# Altium footprint library Ind_Bourns_SRN6045-6R8Y_eec_0.PcbLib: 1 footprints
Each footprint in its own frame and in the unit in brackets; x right, y up, seen from the top. Pads: shape width x height; smd on the part's side, far side on the other; paste and mask are expansions set on the pad; w line width, h text height; cw(c..) or ccw(c..) is an arc to the next point about the centre after c.
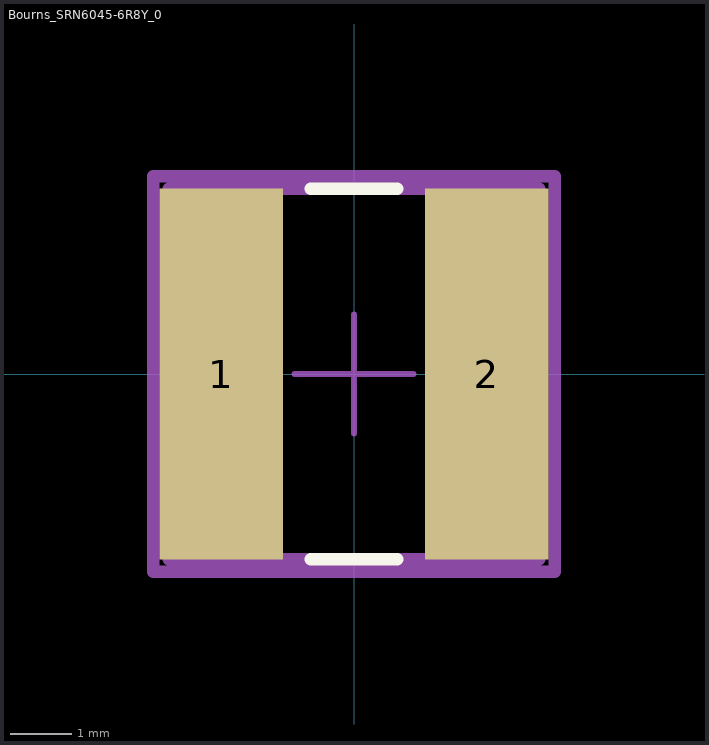
[diagram p0: the footprint, top view; thin cyan lines are the x and y axes]

## Bourns_SRN6045-6R8Y_0 [mm]
pads (2):
  rect 2x6 smd paste+0 mask+0: 1(-2.15,0) 2(2.15,0)
Top Overlay:
  lines w0.2: -0.7,-3 0.7,-3 ; -0.7,3 0.7,3
Mechanical 10:
  lines w0.2: -3.25,-3.2 3.25,-3.2 3.25,3.2 -3.25,3.2 -3.25,-3.2
  text ".Designator" at 0,0 h1
Mechanical 12:
  lines w0.2: -3,-3 3,-3 3,3 -3,3 -3,-3
Mechanical 15:
  lines w0.1: -0.96,0 0.96,0 ; 0,-0.96 0,0.96
  lines w0.2: -3.25,-3.2 3.25,-3.2 3.25,3.2 -3.25,3.2 -3.25,-3.2
3D body "Ind_Bourns_SRN6045-6R8Y_eec.STEP": height 0.25, standoff 0, extent -3.25,-3.2 3.25,3.2